# Altium footprint library SparkFun-Sensors.PCBLIB: 104 footprints (part 5 of 7)
Each footprint in its own frame and in the unit in brackets; x right, y up, seen from the top. Pads: shape width x height; smd on the part's side, far side on the other; paste and mask are expansions set on the pad; w line width, h text height; cw(c..) or ccw(c..) is an arc to the next point about the centre after c.
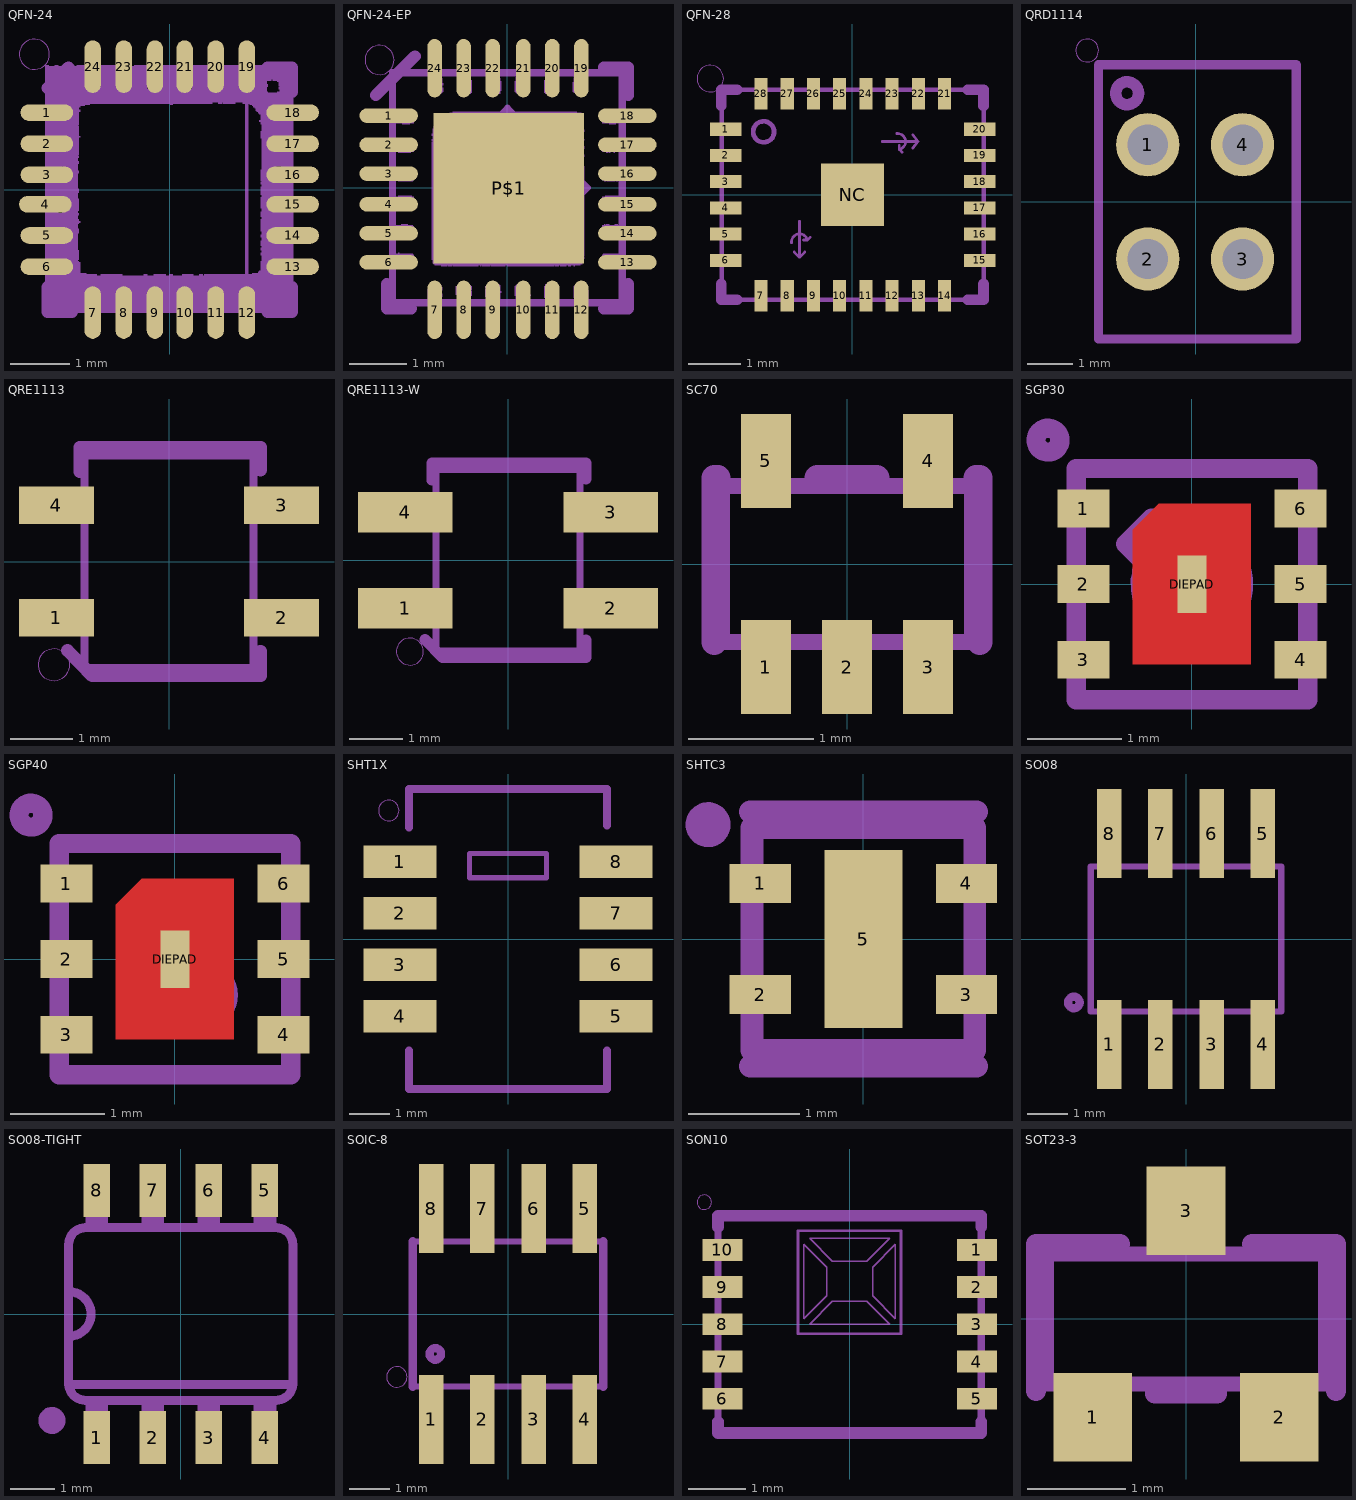
[diagram p4: the footprints below, top view; thin cyan lines are the x and y axes]

## QFN-24 [mil]
pads (24):
  rrect100% 35x11 smd: 1(-81.74,51.21) 2(-81.74,30.53) 3(-81.74,9.84) 4(-82.74,-9.84) 5(-81.74,-30.53) 6(-81.74,-51.21) 13(81.74,-51.21) 14(81.74,-30.53) 15(81.74,-9.84) 16(81.74,9.84) 17(81.74,30.53) 18(81.74,51.21)
  rrect100% 11x35 smd: 7(-51.21,-81.74) 8(-30.53,-81.74) 9(-9.84,-81.74) 10(9.84,-81.74) 11(30.53,-81.74) 12(51.21,-81.74) 19(51.21,81.74) 20(30.53,81.74) 21(9.84,81.74) 22(-9.84,81.74) 23(-30.53,81.74) 24(-51.21,81.74)
tPlace:
  circle w0: c-90,90 r10
  lines w8: -81.24,-64.96 -81.24,-81.24 -64.96,-81.24 ; -81.24,67.46 -67.46,81.24 ; 64.96,-81.24 81.24,-81.24 81.24,-64.96 ; 64.96,81.24 81.24,81.24 81.24,64.96
Reference:
  lines w2: 51.2,-79.2 51.2,79.8
Mech68:
  drawing of 757 lines, arcs and shapes, not listed

## QFN-24-EP [mil]
pads (25):
  rrect100% 40x10 smd: 1(-81.35,49.48) 2(-81.35,29.51) 3(-81.35,9.74) 4(-81.35,-11.32) 5(-81.35,-31.19) 6(-81.35,-51.05) 13(82.13,-51.05) 14(82.13,-31.19) 15(82.13,-11.32) 16(82.13,9.74) 17(82.13,29.51) 18(82.13,49.48)
  rrect100% 10x40 smd: 7(-49.87,-83.53) 8(-30,-83.53) 9(-10.14,-83.53) 10(10.93,-83.53) 11(30.69,-83.53) 12(50.66,-83.53) 19(50.66,81.95) 20(30.69,81.95) 21(10.93,81.95) 22(-10.14,81.95) 23(-30,81.95) 24(-49.87,81.95)
  rect 103x103 smd paste+0: P$1(0.79,-0.39)
Top Paste:
  region: -33,13 -33,32 -14,32 -14,13
  region: 17,13 17,32 36,32 36,13
  region: -32.5,-34.5 -32.5,-15.5 -13.5,-15.5 -13.5,-34.5
  region: 15.5,-34.5 15.5,-15.5 34.5,-15.5 34.5,-34.5
tDocu:
  circle w3.94: c0,0 r7.87
  lines w3.94: -11.81,27.56 cw(c0,25.59) 11.81,27.56 ; -7.87,47.24 0,55.12 ; 0,7.87 0,55.12 ; 7.87,0 55.12,0 ; 7.87,27.56 11.81,27.56 ; 7.87,47.24 0,55.12 ; 15.75,31.5 11.81,27.56 ; 27.56,-7.87 27.56,-11.81 ; 27.56,11.81 cw(c25.59,0) 27.56,-11.81 ; 31.5,-15.75 27.56,-11.81 ; 47.24,-7.87 55.12,0 ; 47.24,7.87 55.12,0
  lines w5: -78.74,-78.74 78.74,-78.74 78.74,78.74 -78.74,78.74 -78.74,-78.74
  text "Y" at -23.62,39.37 h15.5
  text "X" at 43.31,15.75 h15.5
  text "Z" at -3.94,-23.62 h15.5
tPlace:
  circle w0: c-87.58,87.58 r10
  lines w8: -90.18,63.37 -63.37,90.18 ; -82.68,-65.87 -82.68,-82.68 -65.87,-82.68 ; 65.87,-82.68 82.68,-82.68 82.68,-65.87 ; 65.87,82.68 82.68,82.68 82.68,63.37
Mech68:
  drawing of 620 lines, arcs and shapes, not listed

## QFN-28 [mm]
pads (29):
  rect 0.6x0.25 smd paste+0 mask+0: 1(-2.417,1.25) 2(-2.417,0.75) 3(-2.417,0.25) 4(-2.417,-0.25) 5(-2.417,-0.75) 6(-2.417,-1.25) 15(2.433,-1.25) 16(2.433,-0.75) 17(2.433,-0.25) 18(2.433,0.25) 19(2.433,0.75) 20(2.433,1.25)
  rect 0.25x0.6 smd paste+0 mask+0: 7(-1.742,-1.925) 8(-1.242,-1.925) 9(-0.742,-1.925) 10(-0.242,-1.925) 11(0.258,-1.925) 12(0.758,-1.925) 13(1.258,-1.925) 14(1.758,-1.925) 21(1.758,1.925) 22(1.258,1.925) 23(0.758,1.925) 24(0.258,1.925) 25(-0.242,1.925) 26(-0.742,1.925) 27(-1.242,1.925) 28(-1.742,1.925)
  rect 1.2x1.2 smd paste+0 mask+0: NC(0,0)
Top Paste:
  region: -0.65,1.65 -0.85,1.65 -0.85,2.1 -0.65,2.1
  region: -0.65,1.65 -0.85,1.65 -0.85,2.1 -0.65,2.1
  region: -0.65,1.65 -0.85,1.65 -0.85,2.1 -0.65,2.1
  region: -0.15,1.65 -0.35,1.65 -0.35,2.1 -0.15,2.1
  region: 0.35,1.65 0.15,1.65 0.15,2.1 0.35,2.1
  region: 0.85,1.65 0.65,1.65 0.65,2.1 0.85,2.1
  region: 1.35,1.65 1.15,1.65 1.15,2.1 1.35,2.1
  region: 1.85,1.65 1.65,1.65 1.65,2.1 1.85,2.1
  region: -1.15,1.65 -1.35,1.65 -1.35,2.1 -1.15,2.1
  region: -1.65,1.65 -1.85,1.65 -1.85,2.1 -1.65,2.1
  region: -2.15,-1.15 -2.15,-1.35 -2.6,-1.35 -2.6,-1.15
  region: -2.15,-1.15 -2.15,-1.35 -2.6,-1.35 -2.6,-1.15
  region: -2.15,-1.15 -2.15,-1.35 -2.6,-1.35 -2.6,-1.15
  region: -2.15,-0.65 -2.15,-0.85 -2.6,-0.85 -2.6,-0.65
  region: -2.15,-0.15 -2.15,-0.35 -2.6,-0.35 -2.6,-0.15
  region: -2.15,0.35 -2.15,0.15 -2.6,0.15 -2.6,0.35
  region: -2.15,0.85 -2.15,0.65 -2.6,0.65 -2.6,0.85
  region: -2.15,1.35 -2.15,1.15 -2.6,1.15 -2.6,1.35
  region: -1.85,-1.65 -1.65,-1.65 -1.65,-2.1 -1.85,-2.1
  region: -1.35,-1.65 -1.15,-1.65 -1.15,-2.1 -1.35,-2.1
  region: -0.85,-1.65 -0.65,-1.65 -0.65,-2.1 -0.85,-2.1
  region: -0.35,-1.65 -0.15,-1.65 -0.15,-2.1 -0.35,-2.1
  region: 2.15,-0.85 2.15,-0.65 2.6,-0.65 2.6,-0.85
  region: 2.15,-0.85 2.15,-0.65 2.6,-0.65 2.6,-0.85
  region: 2.15,-0.85 2.15,-0.65 2.6,-0.65 2.6,-0.85
  region: 2.15,-1.35 2.15,-1.15 2.6,-1.15 2.6,-1.35
  region: 1.65,-1.65 1.85,-1.65 1.85,-2.1 1.65,-2.1
  region: 1.15,-1.65 1.35,-1.65 1.35,-2.1 1.15,-2.1
  region: 0.65,-1.65 0.85,-1.65 0.85,-2.1 0.65,-2.1
  region: 0.15,-1.65 0.35,-1.65 0.35,-2.1 0.15,-2.1
  region: 2.15,-0.35 2.15,-0.15 2.6,-0.15 2.6,-0.35
  region: 2.15,0.15 2.15,0.35 2.6,0.35 2.6,0.15
  region: 2.15,0.65 2.15,0.85 2.6,0.85 2.6,0.65
  region: 2.15,1.15 2.15,1.35 2.6,1.35 2.6,1.15
  region: -0.6,-0.6 -0.6,0.6 0.6,0.6 0.6,-0.6
Top Solder:
  region: -2.742,1.1 -2.742,1.4 -2.092,1.4 -2.092,1.1
  region: -2.742,0.6 -2.742,0.9 -2.092,0.9 -2.092,0.6
  region: -2.742,0.1 -2.742,0.4 -2.092,0.4 -2.092,0.1
  region: -2.742,-0.4 -2.742,-0.1 -2.092,-0.1 -2.092,-0.4
  region: -2.742,-0.9 -2.742,-0.6 -2.092,-0.6 -2.092,-0.9
  region: -2.742,-1.4 -2.742,-1.1 -2.092,-1.1 -2.092,-1.4
  region: -1.892,-2.25 -1.892,-1.6 -1.592,-1.6 -1.592,-2.25
  region: -1.392,-2.25 -1.392,-1.6 -1.092,-1.6 -1.092,-2.25
  region: -0.892,-1.6 -0.592,-1.6 -0.592,-2.25 -0.892,-2.25
  region: -0.392,-1.6 -0.092,-1.6 -0.092,-2.25 -0.392,-2.25
  region: 0.108,-1.6 0.408,-1.6 0.408,-2.25 0.108,-2.25
  region: 0.608,-1.6 0.908,-1.6 0.908,-2.25 0.608,-2.25
  region: 1.108,-1.6 1.408,-1.6 1.408,-2.25 1.108,-2.25
  region: 1.608,-1.6 1.908,-1.6 1.908,-2.25 1.608,-2.25
  region: 2.108,-1.4 2.108,-1.1 2.758,-1.1 2.758,-1.4
  region: 2.108,-0.9 2.108,-0.6 2.758,-0.6 2.758,-0.9
  region: 2.108,-0.4 2.108,-0.1 2.758,-0.1 2.758,-0.4
  region: 2.108,0.1 2.108,0.4 2.758,0.4 2.758,0.1
  region: 2.108,0.9 2.758,0.9 2.758,0.6 2.108,0.6
  region: 2.108,1.4 2.758,1.4 2.758,1.1 2.108,1.1
  region: 1.608,1.6 1.608,2.25 1.908,2.25 1.908,1.6
  region: 1.108,1.6 1.108,2.25 1.408,2.25 1.408,1.6
  region: 0.608,1.6 0.608,2.25 0.908,2.25 0.908,1.6
  region: 0.108,1.6 0.108,2.25 0.408,2.25 0.408,1.6
  region: -0.392,1.6 -0.392,2.25 -0.092,2.25 -0.092,1.6
  region: -0.892,1.6 -0.892,2.25 -0.592,2.25 -0.592,1.6
  region: -1.392,1.6 -1.392,2.25 -1.092,2.25 -1.092,1.6
  region: -1.892,1.6 -1.892,2.25 -1.592,2.25 -1.592,1.6
  region: -0.6,-0.6 -0.6,0.6 0.6,0.6 0.6,-0.6
tDocu:
  circle w0.09: c-1.692,1.2 r0.2
  lines w0.051: -1.161,-0.914 cw(c-1.006,-0.902) -0.856,-0.864 ; -1.11,-1.092 -1.008,-1.194 ; -1.008,-0.508 -1.008,-1.194 ; -0.932,-0.864 -0.856,-0.864 ; -0.907,-1.092 -1.008,-1.194 ; -0.805,-0.813 -0.856,-0.864 ; 0.567,1.016 1.253,1.016 ; 0.846,1.168 cw(c0.859,1.014) 0.897,0.864 ; 0.897,0.94 0.897,0.864 ; 0.948,0.813 0.897,0.864 ; 1.151,0.889 1.253,1.016 ; 1.151,1.143 1.253,1.016
  lines w0.09: -2.492,-2 2.508,-2 2.508,2 -2.492,2 -2.492,-2
  text "X" at 0.592,1.118 h0.35
  text "Y" at -1.262,-0.61 h0.35
tPlace:
  circle w0: c-2.708,2.216 r0.254
  lines w0.203: -2.5,-1.7 -2.5,-2 -2.2,-2 ; -2.5,1.7 -2.5,2 -2.2,2 ; 2.2,-2 2.5,-2 2.5,-1.7 ; 2.2,2 2.5,2 2.5,1.7

## QRD1114 [mil]
pads (4):
  round 55.43 hole 35.43: 1(-42,50) 2(-42,-50) 3(41,-50) 4(41,50)
tDocu:
  circle w10: c-60,95 r10
tPlace:
  circle w0: c-95,132.5 r10
  lines w8: -85,-120 -85,120 88,120 88,-120 -85,-120

## QRE1113 [mm]
pads (4):
  rect 1.2x0.6 smd: 1(-1.8,-0.9) 2(1.8,-0.9) 3(1.8,0.9) 4(-1.8,0.9)
tDocu:
  lines w0.127: -1.35,-1.7 -1.35,1.7 1.35,1.7 1.35,-1.7 -1.35,-1.7
tPlace:
  circle w0: c-1.841,-1.651 r0.254
  lines w0.203: -1.624,-1.424 -1.227,-1.827 1.464,-1.827 1.464,-1.437 ; -1.427,1.437 -1.427,1.827 1.464,1.827 1.464,1.464

## QRE1113-W [mil]
pads (4):
  rect 70x30 smd: 1(-75.87,-35.43) 2(75.87,-35.43) 3(75.87,35.43) 4(-75.87,35.43)
tDocu:
  lines w5: -53.15,-66.93 -53.15,66.93 53.15,66.93 53.15,-66.93 -53.15,-66.93
tPlace:
  circle w0: c-72.5,-67.5 r10
  lines w8: -61.44,-58.56 -48.31,-71.93 57.62,-71.93 57.62,-59.06 ; -56.18,59.06 -56.18,71.93 57.62,71.93 57.62,60.12

## SC70 [mm]
pads (5):
  rect 0.4x0.75 smd paste+0: 1(-0.65,-0.825) 2(0,-0.825) 3(0.65,-0.825) 4(0.65,0.825) 5(-0.65,0.825)
Top Paste:
  region: -0.85,0.45 -0.85,1.2 -0.45,1.2 -0.45,0.45
  region: 0.45,0.45 0.45,1.2 0.85,1.2 0.85,0.45
  region: -0.838,-1.168 -0.838,-0.483 -0.508,-0.483 -0.508,-1.168
  region: -0.165,-1.168 -0.165,-0.483 0.165,-0.483 0.165,-1.168
  region: 0.508,-1.168 0.508,-0.483 0.838,-0.483 0.838,-1.168
tDocu:
  lines w0.127: -1,-0.625 -1,0.625 1,0.625 1,-0.625 -1,-0.625
tPlace:
  lines w0.203: -1.063,-0.625 -1.063,0.689 -1.032,0.689 ; -0.238,0.689 0.238,0.689 ; 1.032,0.689 1.063,0.689 1.063,-0.625

## SGP30 [mil]
pads (7):
  rect 21.65x15.75 smd paste+0: 1(-45.28,31.5) 2(-45.28,0) 3(-45.28,-31.5) 4(45.28,-31.5) 5(45.28,0) 6(45.28,31.5)
  rect 12x24 smd paste+0 mask+0: DIEPAD(0,0)
Top:
  region: -24.61,-33.46 24.61,-33.46 24.61,33.46 -13.78,33.46 -24.61,22.64
Top Paste:
  region: -60.04,23.62 -60.04,39.37 -38.39,39.37 -38.39,23.62
  region: -60.04,-7.87 -60.04,7.87 -38.39,7.87 -38.39,-7.87
  region: -60.04,-39.37 -60.04,-23.62 -38.39,-23.62 -38.39,-39.37
  region: 38.39,23.62 38.39,39.37 60.04,39.37 60.04,23.62
  region: 38.39,-7.87 38.39,7.87 60.04,7.87 60.04,-7.87
  region: 38.39,-39.37 38.39,-23.62 60.04,-23.62 60.04,-39.37
  region: -11.81,-16.73 -11.81,16.73 11.81,16.73 11.81,-16.73
Top Solder:
  region: -28.54,-37.4 28.54,-37.4 28.54,37.4 -15.75,37.4 -28.54,24.61
tDocu:
  lines w8: -20.67,9.84 -27.56,16.73 -16.73,27.56 -8.86,19.69 cw(c0,0) -19.69,8.86 ; -48.23,-48.23 48.23,-48.23 48.23,48.23 -48.23,48.23 -48.23,-48.23
tPlace:
  circle w8: c-60,60 r5
  lines w8: -48.23,-48.23 48.23,-48.23 ; -48.23,48.23 48.23,48.23

## SGP40 [mil]
pads (7):
  rect 21.65x15.75 smd paste+0: 1(-45.28,31.5) 2(-45.28,0) 3(-45.28,-31.5) 4(45.28,-31.5) 5(45.28,0) 6(45.28,31.5)
  rect 12x24 smd paste+0 mask+0: DIEPAD(0,0)
Top:
  region: -24.61,-33.46 24.61,-33.46 24.61,33.46 -13.78,33.46 -24.61,22.64
Top Paste:
  region: -60.04,23.62 -60.04,39.37 -38.39,39.37 -38.39,23.62
  region: -60.04,-7.87 -60.04,7.87 -38.39,7.87 -38.39,-7.87
  region: -60.04,-39.37 -60.04,-23.62 -38.39,-23.62 -38.39,-39.37
  region: 38.39,23.62 38.39,39.37 60.04,39.37 60.04,23.62
  region: 38.39,-7.87 38.39,7.87 60.04,7.87 60.04,-7.87
  region: 38.39,-39.37 38.39,-23.62 60.04,-23.62 60.04,-39.37
  region: -11.81,-16.73 -11.81,16.73 11.81,16.73 11.81,-16.73
Top Solder:
  region: -28.54,-37.4 28.54,-37.4 28.54,37.4 -15.75,37.4 -28.54,24.61
tDocu:
  circle w10: c10,-15 r11.18
  lines w8: -48.23,-48.23 48.23,-48.23 48.23,48.23 -48.23,48.23 -48.23,-48.23
tPlace:
  circle w8: c-60,60 r5
  lines w8: -48.23,-48.23 48.23,-48.23 ; -48.23,48.23 48.23,48.23

## SHT1X [mil]
pads (8):
  rect 70.87x31.5 smd: 1(-105,75) 2(-105,25) 3(-105,-25) 4(-105,-75) 5(105,-75) 6(105,-25) 7(105,25) 8(105,75)
tDocu:
  lines w5: -37.4,59.45 37.4,59.45 37.4,83.07 -37.4,83.07 -37.4,59.45
tPlace:
  circle w0: c-115.79,124.8 r10
  lines w8: -96.06,-108.27 -96.06,-145.67 96.06,-145.67 96.06,-108.27 ; -96.06,108.27 -96.06,145.67 96.06,145.67 96.06,110.24

## SHTC3 [mm]
pads (5):
  rect 0.55x0.35 smd: 1(-0.925,0.5) 2(-0.925,-0.5) 3(0.925,-0.5) 4(0.925,0.5)
  rect 0.7x1.6 smd paste+0: 5(0,0)
Top Paste:
  region: 0.25,-0.7 -0.25,-0.7 -0.25,0.7 0.25,0.7
tDocu:
  lines w0.203: -1,-1 -1,1 1,1 1,-1 -1,-1
tPlace:
  circle w0.203: c-1.394,1.027 r0.1
  lines w0.203: -1.016,-1.143 1.016,-1.143 ; -1.016,1.143 1.016,1.143

## SO08 [mil]
pads (8):
  rect 24x87 smd: 1(-75,-103) 2(-25,-103) 3(25,-103) 4(75,-103) 5(75,103) 6(25,103) 7(-25,103) 8(-75,103)
tDocu:
  region: -82,-113 -82,-73 -68,-73 -68,-113
  region: -32,-113 -32,-73 -18,-73 -18,-113
  region: 18,-113 18,-73 32,-73 32,-113
  region: 68,-113 68,-73 82,-73 82,-113
  region: -82,73 -82,113 -68,113 -68,73
  region: -32,73 -32,113 -18,113 -18,73
  region: 18,73 18,113 32,113 32,73
  region: 68,73 68,113 82,113 82,73
  lines w6: -92.99,-70.98 92.99,-70.98 ; -92.99,70.98 92.99,70.98
tPlace:
  circle w8: c-109.5,-62 r5.65
  lines w6: -92.99,-70.98 -92.99,70.98 ; 92.99,-70.98 92.99,70.98

## SO08-TIGHT [mm]
pads (8):
  rect 0.6x1.2 smd: 1(-1.905,-2.8) 2(-0.635,-2.8) 3(0.635,-2.8) 4(1.905,-2.8) 5(1.905,2.8) 6(0.635,2.8) 7(-0.635,2.8) 8(-1.905,2.8)
tDocu:
  region: 1.651,1.956 1.651,3.099 2.159,3.099 2.159,1.956
  region: -2.159,-3.099 -2.159,-1.956 -1.651,-1.956 -1.651,-3.099
  region: -0.889,-3.099 -0.889,-1.956 -0.381,-1.956 -0.381,-3.099
  region: 0.381,-3.073 0.381,-1.93 0.889,-1.93 0.889,-3.073
  region: 1.651,-3.099 1.651,-1.956 2.159,-1.956 2.159,-3.099
  region: 0.381,1.956 0.381,3.099 0.889,3.099 0.889,1.956
  region: -0.889,1.956 -0.889,3.099 -0.381,3.099 -0.381,1.956
  region: -2.159,1.956 -2.159,3.099 -1.651,3.099 -1.651,1.956
tPlace:
  circle w0.305: c-2.921,-2.413 r0.152
  lines w0.203: -2.54,-1.6 2.54,-1.6 ; -2.54,-0.508 -2.54,0.508 ; -2.54,-0.508 -2.54,-1.575 ccw(c-2.159,-1.575) -2.159,-1.956 2.159,-1.956 ccw(c2.159,-1.575) 2.54,-1.575 2.54,1.575 ccw(c2.159,1.575) 2.159,1.956 -2.159,1.956 ccw(c-2.159,1.575) -2.54,1.575 -2.54,0.508 ; -2.54,-0.508 ccw(c-2.54,0) -2.54,0.508

## SOIC-8 [mil]
pads (8):
  rect 24x87 smd: 1(-75,-103) 2(-25,-103) 3(25,-103) 4(75,-103) 5(75,103) 6(25,103) 7(-25,103) 8(-75,103)
tDocu:
  circle w8: c-71,-39 r5.65
  region: -82,-113 -82,-73 -68,-73 -68,-113
  region: -32,-113 -32,-73 -18,-73 -18,-113
  region: 18,-113 18,-73 32,-73 32,-113
  region: 68,-113 68,-73 82,-73 82,-113
  region: -82,73 -82,113 -68,113 -68,73
  region: -32,73 -32,113 -18,113 -18,73
  region: 18,73 18,113 32,113 32,73
  region: 68,73 68,113 82,113 82,73
  lines w6: -92.99,-70.98 92.99,-70.98 ; -92.99,70.98 92.99,70.98
tPlace:
  circle w0: c-108.5,-61.5 r10
  lines w8: -92.99,-70.98 -92.99,70.98 ; 92.99,-70.98 92.99,70.98

## SON10 [mm]
pads (10):
  rect 0.7x0.38 smd: 1(2.225,1.3) 2(2.225,0.65) 3(2.225,0) 4(2.225,-0.65) 5(2.225,-1.3) 6(-2.225,-1.3) 7(-2.225,-0.65) 8(-2.225,0) 9(-2.225,0.65) 10(-2.225,1.3)
tDocu:
  lines w0.025: -0.8,0.1 -0.4,0.5 -0.4,1 -0.8,1.4 -0.8,0.1 ; -0.7,0 0.7,0 0.3,0.4 -0.3,0.4 -0.7,0 ; -0.7,1.5 -0.3,1.1 0.3,1.1 0.7,1.5 -0.7,1.5 ; 0.4,0.5 0.4,1 0.8,1.4 0.8,0.1 0.4,0.5
  lines w0.051: -0.9,-0.165 0.9,-0.165 0.9,1.635 -0.9,1.635 -0.9,-0.165
  lines w0.127: -2.3,-1.9 -2.3,1.9 2.3,1.9 2.3,-1.9 -2.3,-1.9
tPlace:
  circle w0: c-2.54,2.134 r0.127
  lines w0.203: -2.3,-1.7 -2.3,-1.9 2.3,-1.9 2.3,-1.7 ; -2.3,1.7 -2.3,1.9 2.3,1.9 2.3,1.7
  text "3" at -0.1,0.1 h0.39
  text "1" at -0.1,1.2 h0.39
  text "2" at 0.506,0.6 h0.39
  text "4" at -0.63,0.6 h0.39

## SOT23-3 [mil]
pads (3):
  rect 31.5x35.43 smd: 1(-37.4,-39.37) 2(37.4,-39.37) 3(0,43.31)
tDocu:
  lines w6: -56,-26 56,-26 56,26 -56,26 -56,-26
tPlace:
  lines w8: -60.12,-28.94 -60.12,30.06 -26.5,30.06 ; -12.5,-30 12.5,-30 ; 26.5,30.06 60.12,30.06 60.12,-28.94